# Altium schematic symbol library Linear Regulator TO252-3.SchLib: 1 symbol
Pins are listed as number, name and electrical type; pins without a type are passive.

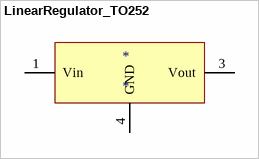
[diagram p0: symbol LinearRegulator_TO252]

## LinearRegulator_TO252
designator *
footprint TO252- no center pin
pins: 1 Vin, 3 Vout, 4 GND